# Altium integrated library Maxim Digital Potentiometers.IntLib: 1045 symbols (part 39 of 42)
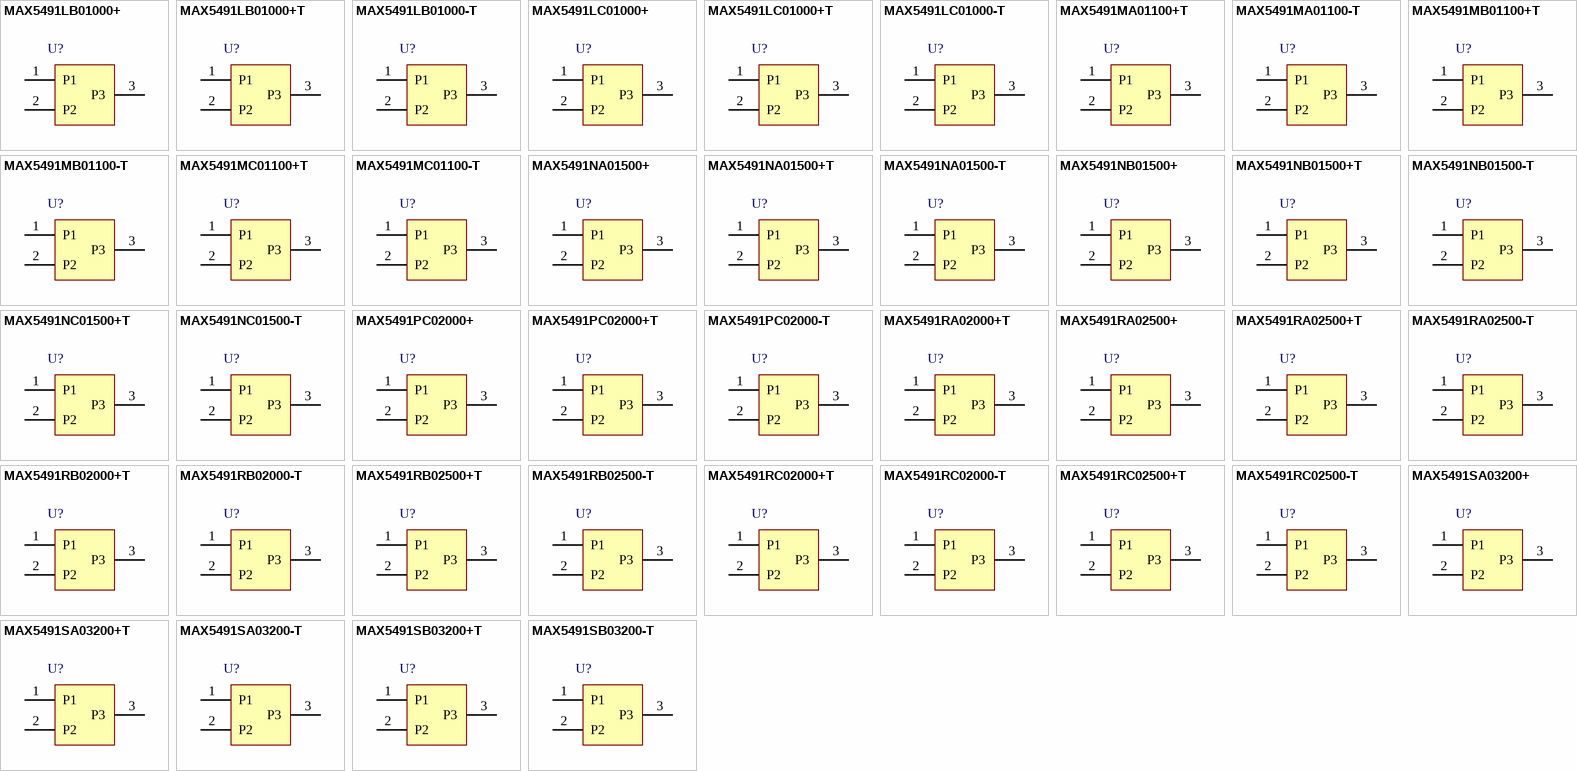
[diagram p67: symbols MAX5491LB01000+ to MAX5491SB03200-T]

## MAX5491RC02000-T
designator U?
30k 2 kV ESD Precision-Matched Resistor-Divider, -40 to 85 degC, 3-pin SOT (U3-2), Tape and Reel; PartNumber: MAX5491RC02000-T; DatasheetVersion: Rev. 3; PackageVersion: Rev. J, 06/2012; PackageReference: U3-2; PackageDescription: 3-Pin Small-Outline Transistor Package (U3-2), Body 2.92 x 1.3 mm, Pitch 0.95 mm; Supplier 1: Mouser; Supplier Part Number 1: N/A; Applications: Precision Voltage Divider; Mounting Technology: Surface Mount; Code_JEDEC: TO236; ComponentLink1Description: Manufacturer URL; ComponentLink1URL: http://www.maximintegrated.com/; ComponentLink2Description: Datasheet; ComponentLink2URL: http://datasheets.maximintegrated.com/en/ds/MAX5491.pdf; ComponentLink3Description: Package Specification; ComponentLink3URL: http://pdfserv.maximintegrated.com/package_dwgs/21-0051.PDF
footprint MAXM-U3-2_N (SOT23, 3-Leads, Body 2.92x1.3mm, Pitch 0.95mm, IPC Medium Density)
footprint MAXM-U3-2_L (SOT23, 3-Leads, Body 2.92x1.3mm, Pitch 0.95mm, IPC High Density)
footprint MAXM-U3-2_M (SOT23, 3-Leads, Body 2.92x1.3mm, Pitch 0.95mm, IPC Low Density)
pins: 1 P1 "R1 Connection Terminal", 2 P2 "R2 Connection Terminal", 3 P3 "Midpoint Between R1 and R2 Connection Terminals"

## MAX5491RC02500+T
designator U?
30k 2 kV ESD Precision-Matched Resistor-Divider, -40 to 85 degC, 3-pin SOT (U3+2), Pb-Free, Tape and Reel; PartNumber: MAX5491RC02500+T; DatasheetVersion: Rev. 3; PackageVersion: Rev. J, 06/2012; PackageReference: U3+2; PackageDescription: 3-Pin Small-Outline Transistor Package (U3+2), Body 2.92 x 1.3 mm, Pitch 0.95 mm; Supplier 1: Digi-Key; Supplier Part Number 1: MAX5491RC02500+T-ND; Supplier 2: Mouser; Supplier Part Number 2: 700-MAX5491RC02500T; Applications: Precision Voltage Divider; Mounting Technology: Surface Mount; Code_JEDEC: TO236; ComponentLink1Description: Manufacturer URL; ComponentLink1URL: http://www.maximintegrated.com/; ComponentLink2Description: Datasheet; ComponentLink2URL: http://datasheets.maximintegrated.com/en/ds/MAX5491.pdf; ComponentLink3Description: Package Specification; ComponentLink3URL: http://pdfserv.maximintegrated.com/package_dwgs/21-0051.PDF
footprint MAXM-U3+2_N (SOT23, 3-Leads, Body 2.92x1.3mm, Pitch 0.95mm, IPC Medium Density)
footprint MAXM-U3+2_L (SOT23, 3-Leads, Body 2.92x1.3mm, Pitch 0.95mm, IPC High Density)
footprint MAXM-U3+2_M (SOT23, 3-Leads, Body 2.92x1.3mm, Pitch 0.95mm, IPC Low Density)
pins: 1 P1 "R1 Connection Terminal", 2 P2 "R2 Connection Terminal", 3 P3 "Midpoint Between R1 and R2 Connection Terminals"

## MAX5491RC02500-T
designator U?
30k 2 kV ESD Precision-Matched Resistor-Divider, -40 to 85 degC, 3-pin SOT (U3-2), Tape and Reel; PartNumber: MAX5491RC02500-T; DatasheetVersion: Rev. 3; PackageVersion: Rev. J, 06/2012; PackageReference: U3-2; PackageDescription: 3-Pin Small-Outline Transistor Package (U3-2), Body 2.92 x 1.3 mm, Pitch 0.95 mm; Supplier 1: Mouser; Supplier Part Number 1: N/A; Applications: Precision Voltage Divider; Mounting Technology: Surface Mount; Code_JEDEC: TO236; ComponentLink1Description: Manufacturer URL; ComponentLink1URL: http://www.maximintegrated.com/; ComponentLink2Description: Datasheet; ComponentLink2URL: http://datasheets.maximintegrated.com/en/ds/MAX5491.pdf; ComponentLink3Description: Package Specification; ComponentLink3URL: http://pdfserv.maximintegrated.com/package_dwgs/21-0051.PDF
footprint MAXM-U3-2_N (SOT23, 3-Leads, Body 2.92x1.3mm, Pitch 0.95mm, IPC Medium Density)
footprint MAXM-U3-2_L (SOT23, 3-Leads, Body 2.92x1.3mm, Pitch 0.95mm, IPC High Density)
footprint MAXM-U3-2_M (SOT23, 3-Leads, Body 2.92x1.3mm, Pitch 0.95mm, IPC Low Density)
pins: 1 P1 "R1 Connection Terminal", 2 P2 "R2 Connection Terminal", 3 P3 "Midpoint Between R1 and R2 Connection Terminals"

## MAX5491SA03200+
designator U?
30k 2 kv ESD Precision-Matched Resistor-Divider, -40 to 85 degC, 3-pin SOT (U3+2), Pb-Free; PartNumber: MAX5491SA03200+; DatasheetVersion: Rev. 3; PackageVersion: Rev. J, 06/2012; PackageReference: U3+2; PackageDescription: 3-Pin Small-Outline Transistor Package (U3+2), Body 2.92 x 1.3 mm, Pitch 0.95 mm; Supplier 1: Mouser; Supplier Part Number 1: N/A; Applications: Precision Voltage Divider; Mounting Technology: Surface Mount; Code_JEDEC: TO236; ComponentLink1Description: Manufacturer URL; ComponentLink1URL: http://www.maximintegrated.com/; ComponentLink2Description: Datasheet; ComponentLink2URL: http://datasheets.maximintegrated.com/en/ds/MAX5491.pdf; ComponentLink3Description: Package Specification; ComponentLink3URL: http://pdfserv.maximintegrated.com/package_dwgs/21-0051.PDF
footprint MAXM-U3+2_N (SOT23, 3-Leads, Body 2.92x1.3mm, Pitch 0.95mm, IPC Medium Density)
footprint MAXM-U3+2_L (SOT23, 3-Leads, Body 2.92x1.3mm, Pitch 0.95mm, IPC High Density)
footprint MAXM-U3+2_M (SOT23, 3-Leads, Body 2.92x1.3mm, Pitch 0.95mm, IPC Low Density)
pins: 1 P1 "R1 Connection Terminal", 2 P2 "R2 Connection Terminal", 3 P3 "Midpoint Between R1 and R2 Connection Terminals"

## MAX5491SA03200+T
designator U?
30k 2 kV ESD Precision-Matched Resistor-Divider, -40 to 85 degC, 3-pin SOT (U3+2), Pb-Free, Tape and Reel; PartNumber: MAX5491SA03200+T; DatasheetVersion: Rev. 3; PackageVersion: Rev. J, 06/2012; PackageReference: U3+2; PackageDescription: 3-Pin Small-Outline Transistor Package (U3+2), Body 2.92 x 1.3 mm, Pitch 0.95 mm; Supplier 1: Digi-Key; Supplier Part Number 1: MAX5491SA03200+T-ND; Supplier 2: Mouser; Supplier Part Number 2: 700-MAX5491SA03200T; Applications: Precision Voltage Divider; Mounting Technology: Surface Mount; Code_JEDEC: TO236; ComponentLink1Description: Manufacturer URL; ComponentLink1URL: http://www.maximintegrated.com/; ComponentLink2Description: Datasheet; ComponentLink2URL: http://datasheets.maximintegrated.com/en/ds/MAX5491.pdf; ComponentLink3Description: Package Specification; ComponentLink3URL: http://pdfserv.maximintegrated.com/package_dwgs/21-0051.PDF
footprint MAXM-U3+2_N (SOT23, 3-Leads, Body 2.92x1.3mm, Pitch 0.95mm, IPC Medium Density)
footprint MAXM-U3+2_L (SOT23, 3-Leads, Body 2.92x1.3mm, Pitch 0.95mm, IPC High Density)
footprint MAXM-U3+2_M (SOT23, 3-Leads, Body 2.92x1.3mm, Pitch 0.95mm, IPC Low Density)
pins: 1 P1 "R1 Connection Terminal", 2 P2 "R2 Connection Terminal", 3 P3 "Midpoint Between R1 and R2 Connection Terminals"

## MAX5491SA03200-T
designator U?
30k 2 kV ESD Precision-Matched Resistor-Divider, -40 to 85 degC, 3-pin SOT (U3-2), Tape and Reel; PartNumber: MAX5491SA03200-T; DatasheetVersion: Rev. 3; PackageVersion: Rev. J, 06/2012; PackageReference: U3-2; PackageDescription: 3-Pin Small-Outline Transistor Package (U3-2), Body 2.92 x 1.3 mm, Pitch 0.95 mm; Supplier 1: Mouser; Supplier Part Number 1: N/A; Applications: Precision Voltage Divider; Mounting Technology: Surface Mount; Code_JEDEC: TO236; ComponentLink1Description: Manufacturer URL; ComponentLink1URL: http://www.maximintegrated.com/; ComponentLink2Description: Datasheet; ComponentLink2URL: http://datasheets.maximintegrated.com/en/ds/MAX5491.pdf; ComponentLink3Description: Package Specification; ComponentLink3URL: http://pdfserv.maximintegrated.com/package_dwgs/21-0051.PDF
footprint MAXM-U3-2_N (SOT23, 3-Leads, Body 2.92x1.3mm, Pitch 0.95mm, IPC Medium Density)
footprint MAXM-U3-2_L (SOT23, 3-Leads, Body 2.92x1.3mm, Pitch 0.95mm, IPC High Density)
footprint MAXM-U3-2_M (SOT23, 3-Leads, Body 2.92x1.3mm, Pitch 0.95mm, IPC Low Density)
pins: 1 P1 "R1 Connection Terminal", 2 P2 "R2 Connection Terminal", 3 P3 "Midpoint Between R1 and R2 Connection Terminals"

## MAX5491SB03200+T
designator U?
30k 2 kV ESD Precision-Matched Resistor-Divider, -40 to 85 degC, 3-pin SOT (U3+2), Pb-Free, Tape and Reel; PartNumber: MAX5491SB03200+T; DatasheetVersion: Rev. 3; PackageVersion: Rev. J, 06/2012; PackageReference: U3+2; PackageDescription: 3-Pin Small-Outline Transistor Package (U3+2), Body 2.92 x 1.3 mm, Pitch 0.95 mm; Supplier 1: Digi-Key; Supplier Part Number 1: MAX5491SB03200+T-ND; Supplier 2: Mouser; Supplier Part Number 2: 700-MAX5491SB03200T; Applications: Precision Voltage Divider; Mounting Technology: Surface Mount; Code_JEDEC: TO236; ComponentLink1Description: Manufacturer URL; ComponentLink1URL: http://www.maximintegrated.com/; ComponentLink2Description: Datasheet; ComponentLink2URL: http://datasheets.maximintegrated.com/en/ds/MAX5491.pdf; ComponentLink3Description: Package Specification; ComponentLink3URL: http://pdfserv.maximintegrated.com/package_dwgs/21-0051.PDF
footprint MAXM-U3+2_N (SOT23, 3-Leads, Body 2.92x1.3mm, Pitch 0.95mm, IPC Medium Density)
footprint MAXM-U3+2_L (SOT23, 3-Leads, Body 2.92x1.3mm, Pitch 0.95mm, IPC High Density)
footprint MAXM-U3+2_M (SOT23, 3-Leads, Body 2.92x1.3mm, Pitch 0.95mm, IPC Low Density)
pins: 1 P1 "R1 Connection Terminal", 2 P2 "R2 Connection Terminal", 3 P3 "Midpoint Between R1 and R2 Connection Terminals"

## MAX5491SB03200-T
designator U?
30k 2 kV ESD Precision-Matched Resistor-Divider, -40 to 85 degC, 3-pin SOT (U3-2), Tape and Reel; PartNumber: MAX5491SB03200-T; DatasheetVersion: Rev. 3; PackageVersion: Rev. J, 06/2012; PackageReference: U3-2; PackageDescription: 3-Pin Small-Outline Transistor Package (U3-2), Body 2.92 x 1.3 mm, Pitch 0.95 mm; Supplier 1: Mouser; Supplier Part Number 1: N/A; Applications: Precision Voltage Divider; Mounting Technology: Surface Mount; Code_JEDEC: TO236; ComponentLink1Description: Manufacturer URL; ComponentLink1URL: http://www.maximintegrated.com/; ComponentLink2Description: Datasheet; ComponentLink2URL: http://datasheets.maximintegrated.com/en/ds/MAX5491.pdf; ComponentLink3Description: Package Specification; ComponentLink3URL: http://pdfserv.maximintegrated.com/package_dwgs/21-0051.PDF
footprint MAXM-U3-2_N (SOT23, 3-Leads, Body 2.92x1.3mm, Pitch 0.95mm, IPC Medium Density)
footprint MAXM-U3-2_L (SOT23, 3-Leads, Body 2.92x1.3mm, Pitch 0.95mm, IPC High Density)
footprint MAXM-U3-2_M (SOT23, 3-Leads, Body 2.92x1.3mm, Pitch 0.95mm, IPC Low Density)
pins: 1 P1 "R1 Connection Terminal", 2 P2 "R2 Connection Terminal", 3 P3 "Midpoint Between R1 and R2 Connection Terminals"

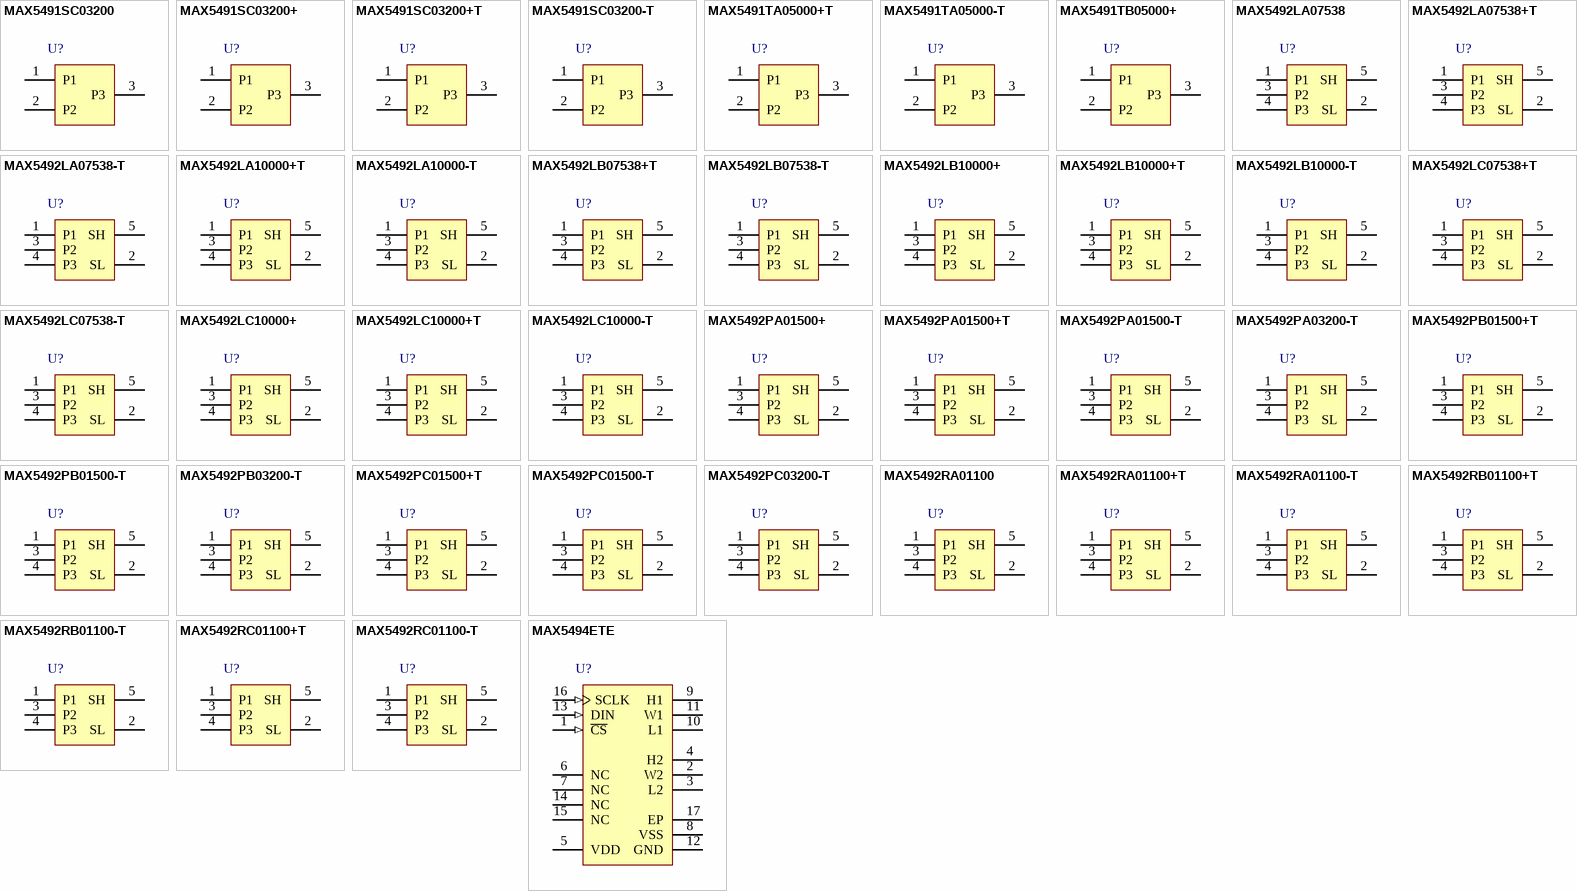
[diagram p27: symbols MAX5491SC03200 to MAX5494ETE]

## MAX5491SC03200
designator U?
30k 2 kV ESD Precision-Matched Resistor-Divider, -40 to 85 degC, 3-pin SOT (U3-2); PartNumber: MAX5491SC03200; DatasheetVersion: Rev. 3; PackageVersion: Rev. J, 06/2012; PackageReference: U3-2; PackageDescription: 3-Pin Small-Outline Transistor Package (U3-2), Body 2.92 x 1.3 mm, Pitch 0.95 mm; Supplier 1: Mouser; Supplier Part Number 1: N/A; Applications: Precision Voltage Divider; Mounting Technology: Surface Mount; Code_JEDEC: TO236; ComponentLink1Description: Manufacturer URL; ComponentLink1URL: http://www.maximintegrated.com/; ComponentLink2Description: Datasheet; ComponentLink2URL: http://datasheets.maximintegrated.com/en/ds/MAX5491.pdf; ComponentLink3Description: Package Specification; ComponentLink3URL: http://pdfserv.maximintegrated.com/package_dwgs/21-0051.PDF
footprint MAXM-U3-2_N (SOT23, 3-Leads, Body 2.92x1.3mm, Pitch 0.95mm, IPC Medium Density)
footprint MAXM-U3-2_L (SOT23, 3-Leads, Body 2.92x1.3mm, Pitch 0.95mm, IPC High Density)
footprint MAXM-U3-2_M (SOT23, 3-Leads, Body 2.92x1.3mm, Pitch 0.95mm, IPC Low Density)
pins: 1 P1 "R1 Connection Terminal", 2 P2 "R2 Connection Terminal", 3 P3 "Midpoint Between R1 and R2 Connection Terminals"

## MAX5491SC03200+
designator U?
30k 2 kV ESD Precision-Matched Resistor-Divider, -40 to 85 degC, 3-pin SOT (U3+2), Pb-Free; PartNumber: MAX5491SC03200+; DatasheetVersion: Rev. 3; PackageVersion: Rev. J, 06/2012; PackageReference: U3+2; PackageDescription: 3-Pin Small-Outline Transistor Package (U3+2), Body 2.92 x 1.3 mm, Pitch 0.95 mm; Supplier 1: Mouser; Supplier Part Number 1: N/A; Applications: Precision Voltage Divider; Mounting Technology: Surface Mount; Code_JEDEC: TO236; ComponentLink1Description: Manufacturer URL; ComponentLink1URL: http://www.maximintegrated.com/; ComponentLink2Description: Datasheet; ComponentLink2URL: http://datasheets.maximintegrated.com/en/ds/MAX5491.pdf; ComponentLink3Description: Package Specification; ComponentLink3URL: http://pdfserv.maximintegrated.com/package_dwgs/21-0051.PDF
footprint MAXM-U3+2_N (SOT23, 3-Leads, Body 2.92x1.3mm, Pitch 0.95mm, IPC Medium Density)
footprint MAXM-U3+2_L (SOT23, 3-Leads, Body 2.92x1.3mm, Pitch 0.95mm, IPC High Density)
footprint MAXM-U3+2_M (SOT23, 3-Leads, Body 2.92x1.3mm, Pitch 0.95mm, IPC Low Density)
pins: 1 P1 "R1 Connection Terminal", 2 P2 "R2 Connection Terminal", 3 P3 "Midpoint Between R1 and R2 Connection Terminals"

## MAX5491SC03200+T
designator U?
30k 2 kV ESD Precision-Matched Resistor-Divider, -40 to 85 degC, 3-pin SOT (U3+2), Pb-Free, Tape and Reel; PartNumber: MAX5491SC03200+T; DatasheetVersion: Rev. 3; PackageVersion: Rev. J, 06/2012; PackageReference: U3+2; PackageDescription: 3-Pin Small-Outline Transistor Package (U3+2), Body 2.92 x 1.3 mm, Pitch 0.95 mm; Supplier 1: Digi-Key; Supplier Part Number 1: MAX5491SC03200+T-ND; Supplier 2: Mouser; Supplier Part Number 2: 700-MAX5491SC03200T; Applications: Precision Voltage Divider; Mounting Technology: Surface Mount; Code_JEDEC: TO236; ComponentLink1Description: Manufacturer URL; ComponentLink1URL: http://www.maximintegrated.com/; ComponentLink2Description: Datasheet; ComponentLink2URL: http://datasheets.maximintegrated.com/en/ds/MAX5491.pdf; ComponentLink3Description: Package Specification; ComponentLink3URL: http://pdfserv.maximintegrated.com/package_dwgs/21-0051.PDF
footprint MAXM-U3+2_N (SOT23, 3-Leads, Body 2.92x1.3mm, Pitch 0.95mm, IPC Medium Density)
footprint MAXM-U3+2_L (SOT23, 3-Leads, Body 2.92x1.3mm, Pitch 0.95mm, IPC High Density)
footprint MAXM-U3+2_M (SOT23, 3-Leads, Body 2.92x1.3mm, Pitch 0.95mm, IPC Low Density)
pins: 1 P1 "R1 Connection Terminal", 2 P2 "R2 Connection Terminal", 3 P3 "Midpoint Between R1 and R2 Connection Terminals"

## MAX5491SC03200-T
designator U?
30k 2 kV ESD Precision-Matched Resistor-Divider, -40 to 85 degC, 3-pin SOT (U3-2), Tape and Reel; PartNumber: MAX5491SC03200-T; DatasheetVersion: Rev. 3; PackageVersion: Rev. J, 06/2012; PackageReference: U3-2; PackageDescription: 3-Pin Small-Outline Transistor Package (U3-2), Body 2.92 x 1.3 mm, Pitch 0.95 mm; Supplier 1: Mouser; Supplier Part Number 1: N/A; Applications: Precision Voltage Divider; Mounting Technology: Surface Mount; Code_JEDEC: TO236; ComponentLink1Description: Manufacturer URL; ComponentLink1URL: http://www.maximintegrated.com/; ComponentLink2Description: Datasheet; ComponentLink2URL: http://datasheets.maximintegrated.com/en/ds/MAX5491.pdf; ComponentLink3Description: Package Specification; ComponentLink3URL: http://pdfserv.maximintegrated.com/package_dwgs/21-0051.PDF
footprint MAXM-U3-2_N (SOT23, 3-Leads, Body 2.92x1.3mm, Pitch 0.95mm, IPC Medium Density)
footprint MAXM-U3-2_L (SOT23, 3-Leads, Body 2.92x1.3mm, Pitch 0.95mm, IPC High Density)
footprint MAXM-U3-2_M (SOT23, 3-Leads, Body 2.92x1.3mm, Pitch 0.95mm, IPC Low Density)
pins: 1 P1 "R1 Connection Terminal", 2 P2 "R2 Connection Terminal", 3 P3 "Midpoint Between R1 and R2 Connection Terminals"

## MAX5491TA05000+T
designator U?
30k 2 kV ESD Precision-Matched Resistor-Divider, -40 to 85 degC, 3-pin SOT (U3+2), Pb-Free, Tape and Reel; PartNumber: MAX5491TA05000+T; DatasheetVersion: Rev. 3; PackageVersion: Rev. J, 06/2012; PackageReference: U3+2; PackageDescription: 3-Pin Small-Outline Transistor Package (U3+2), Body 2.92 x 1.3 mm, Pitch 0.95 mm; Supplier 1: Digi-Key; Supplier Part Number 1: MAX5491TA05000+T-ND; Supplier 2: Mouser; Supplier Part Number 2: 700-MAX5491TA05000T; Applications: Precision Voltage Divider; Mounting Technology: Surface Mount; Code_JEDEC: TO236; ComponentLink1Description: Manufacturer URL; ComponentLink1URL: http://www.maximintegrated.com/; ComponentLink2Description: Datasheet; ComponentLink2URL: http://datasheets.maximintegrated.com/en/ds/MAX5491.pdf; ComponentLink3Description: Package Specification; ComponentLink3URL: http://pdfserv.maximintegrated.com/package_dwgs/21-0051.PDF
footprint MAXM-U3+2_N (SOT23, 3-Leads, Body 2.92x1.3mm, Pitch 0.95mm, IPC Medium Density)
footprint MAXM-U3+2_L (SOT23, 3-Leads, Body 2.92x1.3mm, Pitch 0.95mm, IPC High Density)
footprint MAXM-U3+2_M (SOT23, 3-Leads, Body 2.92x1.3mm, Pitch 0.95mm, IPC Low Density)
pins: 1 P1 "R1 Connection Terminal", 2 P2 "R2 Connection Terminal", 3 P3 "Midpoint Between R1 and R2 Connection Terminals"

## MAX5491TA05000-T
designator U?
30k 2 kV ESD Precision-Matched Resistor-Divider, -40 to 85 degC, 3-pin SOT (U3-2), Tape and Reel; PartNumber: MAX5491TA05000-T; DatasheetVersion: Rev. 3; PackageVersion: Rev. J, 06/2012; PackageReference: U3-2; PackageDescription: 3-Pin Small-Outline Transistor Package (U3-2), Body 2.92 x 1.3 mm, Pitch 0.95 mm; Supplier 1: Mouser; Supplier Part Number 1: N/A; Applications: Precision Voltage Divider; Mounting Technology: Surface Mount; Code_JEDEC: TO236; ComponentLink1Description: Manufacturer URL; ComponentLink1URL: http://www.maximintegrated.com/; ComponentLink2Description: Datasheet; ComponentLink2URL: http://datasheets.maximintegrated.com/en/ds/MAX5491.pdf; ComponentLink3Description: Package Specification; ComponentLink3URL: http://pdfserv.maximintegrated.com/package_dwgs/21-0051.PDF
footprint MAXM-U3-2_N (SOT23, 3-Leads, Body 2.92x1.3mm, Pitch 0.95mm, IPC Medium Density)
footprint MAXM-U3-2_L (SOT23, 3-Leads, Body 2.92x1.3mm, Pitch 0.95mm, IPC High Density)
footprint MAXM-U3-2_M (SOT23, 3-Leads, Body 2.92x1.3mm, Pitch 0.95mm, IPC Low Density)
pins: 1 P1 "R1 Connection Terminal", 2 P2 "R2 Connection Terminal", 3 P3 "Midpoint Between R1 and R2 Connection Terminals"

## MAX5491TB05000+
designator U?
30k 2 kV ESD Precision-Matched Resistor-Divider, -40 to 85 degC, 3-pin SOT (U3+2), Pb-Free; PartNumber: MAX5491TB05000+; DatasheetVersion: Rev. 3; PackageVersion: Rev. J, 06/2012; PackageReference: U3+2; PackageDescription: 3-Pin Small-Outline Transistor Package (U3+2), Body 2.92 x 1.3 mm, Pitch 0.95 mm; Supplier 1: Mouser; Supplier Part Number 1: N/A; Applications: Precision Voltage Divider; Mounting Technology: Surface Mount; Code_JEDEC: TO236; ComponentLink1Description: Manufacturer URL; ComponentLink1URL: http://www.maximintegrated.com/; ComponentLink2Description: Datasheet; ComponentLink2URL: http://datasheets.maximintegrated.com/en/ds/MAX5491.pdf; ComponentLink3Description: Package Specification; ComponentLink3URL: http://pdfserv.maximintegrated.com/package_dwgs/21-0051.PDF
footprint MAXM-U3+2_N (SOT23, 3-Leads, Body 2.92x1.3mm, Pitch 0.95mm, IPC Medium Density)
footprint MAXM-U3+2_L (SOT23, 3-Leads, Body 2.92x1.3mm, Pitch 0.95mm, IPC High Density)
footprint MAXM-U3+2_M (SOT23, 3-Leads, Body 2.92x1.3mm, Pitch 0.95mm, IPC Low Density)
pins: 1 P1 "R1 Connection Terminal", 2 P2 "R2 Connection Terminal", 3 P3 "Midpoint Between R1 and R2 Connection Terminals"

## MAX5492LA07538
designator U?
10k 2 KV ESD Precision-Matched Resistor-Divider, -55 to 125 degC, 5-pin SOT (U5-1); PartNumber: MAX5492LA07538; DatasheetVersion: Rev. 0; PackageVersion: Rev. G, 04/2011; PackageReference: U5-1; PackageDescription: 5-Pin Small-Outline Transistor Package (U5-1), Body 2.9 x 1.625 mm, Pitch 0.95 mm; Supplier 1: Mouser; Supplier Part Number 1: N/A; Applications: Precision Voltage Divider; Mounting Technology: Surface Mount; Code_JEDEC: MO178; ComponentLink1Description: Manufacturer URL; ComponentLink1URL: http://www.maximintegrated.com/; ComponentLink2Description: Datasheet; ComponentLink2URL: http://datasheets.maximintegrated.com/en/ds/MAX5492.pdf; ComponentLink3Description: Package Specification; ComponentLink3URL: http://pdfserv.maximintegrated.com/package_dwgs/21-0057.PDF
footprint MAXM-U5-1_N (SOT23, 5-Leads, Body 2.9x1.625mm, Pitch 0.95mm, IPC Medium Density)
footprint MAXM-U5-1_L (SOT23, 5-Leads, Body 2.9x1.625mm, Pitch 0.95mm, IPC High Density)
footprint MAXM-U5-1_M (SOT23, 5-Leads, Body 2.9x1.625mm, Pitch 0.95mm, IPC Low Density)
pins: 1 P1 "R1 Connection Terminal", 2 SL "Sense Connection for Low Side of Resistor String. Leave floating or connect in a Kelvin connection configuration.", 3 P2 "R2 Connection Terminal", 4 P3 "Set-Point Connection Terminal", 5 SH "Sense Connection for High Side of Resistor String. Leave floating or connect in a Kelvin connection configuration."

## MAX5492LA07538+T
designator U?
10k 2 KV ESD Precision-Matched Resistor-Divider, -55 to 125 degC, 5-pin SOT (U5+1), Pb-Free, Tape and Reel; PartNumber: MAX5492LA07538+T; DatasheetVersion: Rev. 0; PackageVersion: Rev. G, 04/2011; PackageReference: U5+1; PackageDescription: 5-Pin Small-Outline Transistor Package (U5+1), Body 2.90 x 1.625 mm, Pitch 0.95 mm; Supplier 1: Digi-Key; Supplier Part Number 1: MAX5492LA07538+T-ND; Supplier 2: Mouser; Supplier Part Number 2: 700-MAX5492LA07538T; Applications: Precision Voltage Divider; Mounting Technology: Surface Mount; Code_JEDEC: MO178; ComponentLink1Description: Manufacturer URL; ComponentLink1URL: http://www.maximintegrated.com/; ComponentLink2Description: Datasheet; ComponentLink2URL: http://datasheets.maximintegrated.com/en/ds/MAX5492.pdf; ComponentLink3Description: Package Specification; ComponentLink3URL: http://pdfserv.maximintegrated.com/package_dwgs/21-0057.PDF
footprint MAXM-U5+1_N (SOT23, 5-Leads, Body 2.9x1.625mm, Pitch 0.95mm, IPC Medium Density)
footprint MAXM-U5+1_L (SOT23, 5-Leads, Body 2.9x1.625mm, Pitch 0.95mm, IPC High Density)
footprint MAXM-U5+1_M (SOT23, 5-Leads, Body 2.9x1.625mm, Pitch 0.95mm, IPC Low Density)
pins: 1 P1 "R1 Connection Terminal", 2 SL "Sense Connection for Low Side of Resistor String. Leave floating or connect in a Kelvin connection configuration.", 3 P2 "R2 Connection Terminal", 4 P3 "Set-Point Connection Terminal", 5 SH "Sense Connection for High Side of Resistor String. Leave floating or connect in a Kelvin connection configuration."

## MAX5492LA07538-T
designator U?
10k 2 KV ESD Precision-Matched Resistor-Divider, -55 to 125 degC, 5-pin SOT (U5-1), Tape and Reel; PartNumber: MAX5492LA07538-T; DatasheetVersion: Rev. 0; PackageVersion: Rev. G, 04/2011; PackageReference: U5-1; PackageDescription: 5-Pin Small-Outline Transistor Package (U5-1), Body 2.9 x 1.625 mm, Pitch 0.95 mm; Supplier 1: Mouser; Supplier Part Number 1: N/A; Applications: Precision Voltage Divider; Mounting Technology: Surface Mount; Code_JEDEC: MO178; ComponentLink1Description: Manufacturer URL; ComponentLink1URL: http://www.maximintegrated.com/; ComponentLink2Description: Datasheet; ComponentLink2URL: http://datasheets.maximintegrated.com/en/ds/MAX5492.pdf; ComponentLink3Description: Package Specification; ComponentLink3URL: http://pdfserv.maximintegrated.com/package_dwgs/21-0057.PDF
footprint MAXM-U5-1_N (SOT23, 5-Leads, Body 2.9x1.625mm, Pitch 0.95mm, IPC Medium Density)
footprint MAXM-U5-1_L (SOT23, 5-Leads, Body 2.9x1.625mm, Pitch 0.95mm, IPC High Density)
footprint MAXM-U5-1_M (SOT23, 5-Leads, Body 2.9x1.625mm, Pitch 0.95mm, IPC Low Density)
pins: 1 P1 "R1 Connection Terminal", 2 SL "Sense Connection for Low Side of Resistor String. Leave floating or connect in a Kelvin connection configuration.", 3 P2 "R2 Connection Terminal", 4 P3 "Set-Point Connection Terminal", 5 SH "Sense Connection for High Side of Resistor String. Leave floating or connect in a Kelvin connection configuration."

## MAX5492LA10000+T
designator U?
10k 2 KV ESD Precision-Matched Resistor-Divider, -55 to 125 degC, 5-pin SOT (U5+1), Pb-Free, Tape and Reel; PartNumber: MAX5492LA10000+T; DatasheetVersion: Rev. 0; PackageVersion: Rev. G, 04/2011; PackageReference: U5+1; PackageDescription: 5-Pin Small-Outline Transistor Package (U5+1), Body 2.90 x 1.625 mm, Pitch 0.95 mm; Supplier 1: Digi-Key; Supplier Part Number 1: MAX5492LA10000+T-ND; Supplier 2: Mouser; Supplier Part Number 2: 700-MAX5492LA10000T; Applications: Precision Voltage Divider; Mounting Technology: Surface Mount; Code_JEDEC: MO178; ComponentLink1Description: Manufacturer URL; ComponentLink1URL: http://www.maximintegrated.com/; ComponentLink2Description: Datasheet; ComponentLink2URL: http://datasheets.maximintegrated.com/en/ds/MAX5492.pdf; ComponentLink3Description: Package Specification; ComponentLink3URL: http://pdfserv.maximintegrated.com/package_dwgs/21-0057.PDF
footprint MAXM-U5+1_N (SOT23, 5-Leads, Body 2.9x1.625mm, Pitch 0.95mm, IPC Medium Density)
footprint MAXM-U5+1_L (SOT23, 5-Leads, Body 2.9x1.625mm, Pitch 0.95mm, IPC High Density)
footprint MAXM-U5+1_M (SOT23, 5-Leads, Body 2.9x1.625mm, Pitch 0.95mm, IPC Low Density)
pins: 1 P1 "R1 Connection Terminal", 2 SL "Sense Connection for Low Side of Resistor String. Leave floating or connect in a Kelvin connection configuration.", 3 P2 "R2 Connection Terminal", 4 P3 "Set-Point Connection Terminal", 5 SH "Sense Connection for High Side of Resistor String. Leave floating or connect in a Kelvin connection configuration."

## MAX5492LA10000-T
designator U?
10k 2 KV ESD Precision-Matched Resistor-Divider, -55 to 125 degC, 5-pin SOT (U5-1), Tape and Reel; PartNumber: MAX5492LA10000-T; DatasheetVersion: Rev. 0; PackageVersion: Rev. G, 04/2011; PackageReference: U5-1; PackageDescription: 5-Pin Small-Outline Transistor Package (U5-1), Body 2.9 x 1.625 mm, Pitch 0.95 mm; Supplier 1: Mouser; Supplier Part Number 1: N/A; Applications: Precision Voltage Divider; Mounting Technology: Surface Mount; Code_JEDEC: MO178; ComponentLink1Description: Manufacturer URL; ComponentLink1URL: http://www.maximintegrated.com/; ComponentLink2Description: Datasheet; ComponentLink2URL: http://datasheets.maximintegrated.com/en/ds/MAX5492.pdf; ComponentLink3Description: Package Specification; ComponentLink3URL: http://pdfserv.maximintegrated.com/package_dwgs/21-0057.PDF
footprint MAXM-U5-1_N (SOT23, 5-Leads, Body 2.9x1.625mm, Pitch 0.95mm, IPC Medium Density)
footprint MAXM-U5-1_L (SOT23, 5-Leads, Body 2.9x1.625mm, Pitch 0.95mm, IPC High Density)
footprint MAXM-U5-1_M (SOT23, 5-Leads, Body 2.9x1.625mm, Pitch 0.95mm, IPC Low Density)
pins: 1 P1 "R1 Connection Terminal", 2 SL "Sense Connection for Low Side of Resistor String. Leave floating or connect in a Kelvin connection configuration.", 3 P2 "R2 Connection Terminal", 4 P3 "Set-Point Connection Terminal", 5 SH "Sense Connection for High Side of Resistor String. Leave floating or connect in a Kelvin connection configuration."

## MAX5492LB07538+T
designator U?
10k 2 kV ESD Precision-Matched Resistor-Divider, -55 to 125 degC, 5-pin SOT (U5+1), Pb-Free, Tape and Reel; PartNumber: MAX5492LB07538+T; DatasheetVersion: Rev. 0; PackageVersion: Rev. G, 04/2011; PackageReference: U5+1; PackageDescription: 5-Pin Small-Outline Transistor Package (U5+1), Body 2.90 x 1.625 mm, Pitch 0.95 mm; Supplier 1: Digi-Key; Supplier Part Number 1: MAX5492LB07538+T-ND; Supplier 2: Mouser; Supplier Part Number 2: 700-MAX5492LB07538T; Applications: Precision Voltage Divider; Mounting Technology: Surface Mount; Code_JEDEC: MO178; ComponentLink1Description: Manufacturer URL; ComponentLink1URL: http://www.maximintegrated.com/; ComponentLink2Description: Datasheet; ComponentLink2URL: http://datasheets.maximintegrated.com/en/ds/MAX5492.pdf; ComponentLink3Description: Package Specification; ComponentLink3URL: http://pdfserv.maximintegrated.com/package_dwgs/21-0057.PDF
footprint MAXM-U5+1_N (SOT23, 5-Leads, Body 2.9x1.625mm, Pitch 0.95mm, IPC Medium Density)
footprint MAXM-U5+1_L (SOT23, 5-Leads, Body 2.9x1.625mm, Pitch 0.95mm, IPC High Density)
footprint MAXM-U5+1_M (SOT23, 5-Leads, Body 2.9x1.625mm, Pitch 0.95mm, IPC Low Density)
pins: 1 P1 "R1 Connection Terminal", 2 SL "Sense Connection for Low Side of Resistor String. Leave floating or connect in a Kelvin connection configuration.", 3 P2 "R2 Connection Terminal", 4 P3 "Set-Point Connection Terminal", 5 SH "Sense Connection for High Side of Resistor String. Leave floating or connect in a Kelvin connection configuration."

## MAX5492LB07538-T
designator U?
10k 2 kV ESD Precision-Matched Resistor-Divider, -55 to 125 degC, 5-pin SOT (U5-1), Tape and Reel; PartNumber: MAX5492LB07538-T; DatasheetVersion: Rev. 0; PackageVersion: Rev. G, 04/2011; PackageReference: U5-1; PackageDescription: 5-Pin Small-Outline Transistor Package (U5-1), Body 2.9 x 1.625 mm, Pitch 0.95 mm; Supplier 1: Mouser; Supplier Part Number 1: N/A; Applications: Precision Voltage Divider; Mounting Technology: Surface Mount; Code_JEDEC: MO178; ComponentLink1Description: Manufacturer URL; ComponentLink1URL: http://www.maximintegrated.com/; ComponentLink2Description: Datasheet; ComponentLink2URL: http://datasheets.maximintegrated.com/en/ds/MAX5492.pdf; ComponentLink3Description: Package Specification; ComponentLink3URL: http://pdfserv.maximintegrated.com/package_dwgs/21-0057.PDF
footprint MAXM-U5-1_N (SOT23, 5-Leads, Body 2.9x1.625mm, Pitch 0.95mm, IPC Medium Density)
footprint MAXM-U5-1_L (SOT23, 5-Leads, Body 2.9x1.625mm, Pitch 0.95mm, IPC High Density)
footprint MAXM-U5-1_M (SOT23, 5-Leads, Body 2.9x1.625mm, Pitch 0.95mm, IPC Low Density)
pins: 1 P1 "R1 Connection Terminal", 2 SL "Sense Connection for Low Side of Resistor String. Leave floating or connect in a Kelvin connection configuration.", 3 P2 "R2 Connection Terminal", 4 P3 "Set-Point Connection Terminal", 5 SH "Sense Connection for High Side of Resistor String. Leave floating or connect in a Kelvin connection configuration."

## MAX5492LB10000+
designator U?
10k 2 kV ESD Precision-Matched Resistor-Divider, -55 to 125 degC, 5-pin SOT (U5+1), Pb-Free; PartNumber: MAX5492LB10000+; DatasheetVersion: Rev. 0; PackageVersion: Rev. G, 04/2011; PackageReference: U5+1; PackageDescription: 5-Pin Small-Outline Transistor Package (U5+1), Body 2.90 x 1.625 mm, Pitch 0.95 mm; Supplier 1: Mouser; Supplier Part Number 1: N/A; Applications: Precision Voltage Divider; Mounting Technology: Surface Mount; Code_JEDEC: MO178; ComponentLink1Description: Manufacturer URL; ComponentLink1URL: http://www.maximintegrated.com/; ComponentLink2Description: Datasheet; ComponentLink2URL: http://datasheets.maximintegrated.com/en/ds/MAX5492.pdf; ComponentLink3Description: Package Specification; ComponentLink3URL: http://pdfserv.maximintegrated.com/package_dwgs/21-0057.PDF
footprint MAXM-U5+1_N (SOT23, 5-Leads, Body 2.9x1.625mm, Pitch 0.95mm, IPC Medium Density)
footprint MAXM-U5+1_L (SOT23, 5-Leads, Body 2.9x1.625mm, Pitch 0.95mm, IPC High Density)
footprint MAXM-U5+1_M (SOT23, 5-Leads, Body 2.9x1.625mm, Pitch 0.95mm, IPC Low Density)
pins: 1 P1 "R1 Connection Terminal", 2 SL "Sense Connection for Low Side of Resistor String. Leave floating or connect in a Kelvin connection configuration.", 3 P2 "R2 Connection Terminal", 4 P3 "Set-Point Connection Terminal", 5 SH "Sense Connection for High Side of Resistor String. Leave floating or connect in a Kelvin connection configuration."

## MAX5492LB10000+T
designator U?
10k 2 kV ESD Precision-Matched Resistor-Divider, -55 to 125 degC, 5-pin SOT (U5+1), Pb-Free, Tape and Reel; PartNumber: MAX5492LB10000+T; DatasheetVersion: Rev. 0; PackageVersion: Rev. G, 04/2011; PackageReference: U5+1; PackageDescription: 5-Pin Small-Outline Transistor Package (U5+1), Body 2.90 x 1.625 mm, Pitch 0.95 mm; Supplier 1: Digi-Key; Supplier Part Number 1: MAX5492LB10000+TTR-ND; Supplier 2: Digi-Key; Supplier Part Number 2: MAX5492LB10000+TCT-ND; Supplier 3: Digi-Key; Supplier Part Number 3: MAX5492LB10000+TDKR-ND; Supplier 4: Farnell; Supplier Part Number 4: 1845902; Supplier 5: Mouser; Supplier Part Number 5: 700-MAX5492LB10000T; Applications: Precision Voltage Divider; Mounting Technology: Surface Mount; Code_JEDEC: MO178; ComponentLink1Description: Manufacturer URL; ComponentLink1URL: http://www.maximintegrated.com/; ComponentLink2Description: Datasheet; ComponentLink2URL: http://datasheets.maximintegrated.com/en/ds/MAX5492.pdf; ComponentLink3Description: Package Specification; ComponentLink3URL: http://pdfserv.maximintegrated.com/package_dwgs/21-0057.PDF
footprint MAXM-U5+1_N (SOT23, 5-Leads, Body 2.9x1.625mm, Pitch 0.95mm, IPC Medium Density)
footprint MAXM-U5+1_L (SOT23, 5-Leads, Body 2.9x1.625mm, Pitch 0.95mm, IPC High Density)
footprint MAXM-U5+1_M (SOT23, 5-Leads, Body 2.9x1.625mm, Pitch 0.95mm, IPC Low Density)
pins: 1 P1 "R1 Connection Terminal", 2 SL "Sense Connection for Low Side of Resistor String. Leave floating or connect in a Kelvin connection configuration.", 3 P2 "R2 Connection Terminal", 4 P3 "Set-Point Connection Terminal", 5 SH "Sense Connection for High Side of Resistor String. Leave floating or connect in a Kelvin connection configuration."

## MAX5492LB10000-T
designator U?
10k 2 kV ESD Precision-Matched Resistor-Divider, -55 to 125 degC, 5-pin SOT (U5-1), Tape and Reel; PartNumber: MAX5492LB10000-T; DatasheetVersion: Rev. 0; PackageVersion: Rev. G, 04/2011; PackageReference: U5-1; PackageDescription: 5-Pin Small-Outline Transistor Package (U5-1), Body 2.9 x 1.625 mm, Pitch 0.95 mm; Supplier 1: Mouser; Supplier Part Number 1: N/A; Applications: Precision Voltage Divider; Mounting Technology: Surface Mount; Code_JEDEC: MO178; ComponentLink1Description: Manufacturer URL; ComponentLink1URL: http://www.maximintegrated.com/; ComponentLink2Description: Datasheet; ComponentLink2URL: http://datasheets.maximintegrated.com/en/ds/MAX5492.pdf; ComponentLink3Description: Package Specification; ComponentLink3URL: http://pdfserv.maximintegrated.com/package_dwgs/21-0057.PDF
footprint MAXM-U5-1_N (SOT23, 5-Leads, Body 2.9x1.625mm, Pitch 0.95mm, IPC Medium Density)
footprint MAXM-U5-1_L (SOT23, 5-Leads, Body 2.9x1.625mm, Pitch 0.95mm, IPC High Density)
footprint MAXM-U5-1_M (SOT23, 5-Leads, Body 2.9x1.625mm, Pitch 0.95mm, IPC Low Density)
pins: 1 P1 "R1 Connection Terminal", 2 SL "Sense Connection for Low Side of Resistor String. Leave floating or connect in a Kelvin connection configuration.", 3 P2 "R2 Connection Terminal", 4 P3 "Set-Point Connection Terminal", 5 SH "Sense Connection for High Side of Resistor String. Leave floating or connect in a Kelvin connection configuration."

## MAX5492LC07538+T
designator U?
10k 2 kV ESD Precision-Matched Resistor-Divider, -55 to 125 degC, 5-pin SOT (U5+1), Pb-Free, Tape and Reel; PartNumber: MAX5492LC07538+T; DatasheetVersion: Rev. 0; PackageVersion: Rev. G, 04/2011; PackageReference: U5+1; PackageDescription: 5-Pin Small-Outline Transistor Package (U5+1), Body 2.90 x 1.625 mm, Pitch 0.95 mm; Supplier 1: Digi-Key; Supplier Part Number 1: MAX5492LC07538+T-ND; Supplier 2: Mouser; Supplier Part Number 2: 700-MAX5492LC07538T; Applications: Precision Voltage Divider; Mounting Technology: Surface Mount; Code_JEDEC: MO178; ComponentLink1Description: Manufacturer URL; ComponentLink1URL: http://www.maximintegrated.com/; ComponentLink2Description: Datasheet; ComponentLink2URL: http://datasheets.maximintegrated.com/en/ds/MAX5492.pdf; ComponentLink3Description: Package Specification; ComponentLink3URL: http://pdfserv.maximintegrated.com/package_dwgs/21-0057.PDF
footprint MAXM-U5+1_N (SOT23, 5-Leads, Body 2.9x1.625mm, Pitch 0.95mm, IPC Medium Density)
footprint MAXM-U5+1_L (SOT23, 5-Leads, Body 2.9x1.625mm, Pitch 0.95mm, IPC High Density)
footprint MAXM-U5+1_M (SOT23, 5-Leads, Body 2.9x1.625mm, Pitch 0.95mm, IPC Low Density)
pins: 1 P1 "R1 Connection Terminal", 2 SL "Sense Connection for Low Side of Resistor String. Leave floating or connect in a Kelvin connection configuration.", 3 P2 "R2 Connection Terminal", 4 P3 "Set-Point Connection Terminal", 5 SH "Sense Connection for High Side of Resistor String. Leave floating or connect in a Kelvin connection configuration."

## MAX5492LC07538-T
designator U?
10k 2 kV ESD Precision-Matched Resistor-Divider, -55 to 125 degC, 5-pin SOT (U5-1), Tape and Reel; PartNumber: MAX5492LC07538-T; DatasheetVersion: Rev. 0; PackageVersion: Rev. G, 04/2011; PackageReference: U5-1; PackageDescription: 5-Pin Small-Outline Transistor Package (U5-1), Body 2.9 x 1.625 mm, Pitch 0.95 mm; Supplier 1: Mouser; Supplier Part Number 1: N/A; Applications: Precision Voltage Divider; Mounting Technology: Surface Mount; Code_JEDEC: MO178; ComponentLink1Description: Manufacturer URL; ComponentLink1URL: http://www.maximintegrated.com/; ComponentLink2Description: Datasheet; ComponentLink2URL: http://datasheets.maximintegrated.com/en/ds/MAX5492.pdf; ComponentLink3Description: Package Specification; ComponentLink3URL: http://pdfserv.maximintegrated.com/package_dwgs/21-0057.PDF
footprint MAXM-U5-1_N (SOT23, 5-Leads, Body 2.9x1.625mm, Pitch 0.95mm, IPC Medium Density)
footprint MAXM-U5-1_L (SOT23, 5-Leads, Body 2.9x1.625mm, Pitch 0.95mm, IPC High Density)
footprint MAXM-U5-1_M (SOT23, 5-Leads, Body 2.9x1.625mm, Pitch 0.95mm, IPC Low Density)
pins: 1 P1 "R1 Connection Terminal", 2 SL "Sense Connection for Low Side of Resistor String. Leave floating or connect in a Kelvin connection configuration.", 3 P2 "R2 Connection Terminal", 4 P3 "Set-Point Connection Terminal", 5 SH "Sense Connection for High Side of Resistor String. Leave floating or connect in a Kelvin connection configuration."

## MAX5492LC10000+
designator U?
10k 2 kV ESD Precision-Matched Resistor-Divider, -55 to 125 degC, 5-pin SOT (U5+1), Pb-Free; PartNumber: MAX5492LC10000+; DatasheetVersion: Rev. 0; PackageVersion: Rev. G, 04/2011; PackageReference: U5+1; PackageDescription: 5-Pin Small-Outline Transistor Package (U5+1), Body 2.90 x 1.625 mm, Pitch 0.95 mm; Supplier 1: Mouser; Supplier Part Number 1: N/A; Applications: Precision Voltage Divider; Mounting Technology: Surface Mount; Code_JEDEC: MO178; ComponentLink1Description: Manufacturer URL; ComponentLink1URL: http://www.maximintegrated.com/; ComponentLink2Description: Datasheet; ComponentLink2URL: http://datasheets.maximintegrated.com/en/ds/MAX5492.pdf; ComponentLink3Description: Package Specification; ComponentLink3URL: http://pdfserv.maximintegrated.com/package_dwgs/21-0057.PDF
footprint MAXM-U5+1_N (SOT23, 5-Leads, Body 2.9x1.625mm, Pitch 0.95mm, IPC Medium Density)
footprint MAXM-U5+1_L (SOT23, 5-Leads, Body 2.9x1.625mm, Pitch 0.95mm, IPC High Density)
footprint MAXM-U5+1_M (SOT23, 5-Leads, Body 2.9x1.625mm, Pitch 0.95mm, IPC Low Density)
pins: 1 P1 "R1 Connection Terminal", 2 SL "Sense Connection for Low Side of Resistor String. Leave floating or connect in a Kelvin connection configuration.", 3 P2 "R2 Connection Terminal", 4 P3 "Set-Point Connection Terminal", 5 SH "Sense Connection for High Side of Resistor String. Leave floating or connect in a Kelvin connection configuration."

## MAX5492LC10000+T
designator U?
10k 2 kV ESD Precision-Matched Resistor-Divider, -55 to 125 degC, 5-pin SOT (U5+1), Pb-Free, Tape and Reel; PartNumber: MAX5492LC10000+T; DatasheetVersion: Rev. 0; PackageVersion: Rev. G, 04/2011; PackageReference: U5+1; PackageDescription: 5-Pin Small-Outline Transistor Package (U5+1), Body 2.90 x 1.625 mm, Pitch 0.95 mm; Supplier 1: Digi-Key; Supplier Part Number 1: MAX5492LC10000+TTR-ND; Supplier 2: Digi-Key; Supplier Part Number 2: MAX5492LC10000+TCT-ND; Supplier 3: Digi-Key; Supplier Part Number 3: MAX5492LC10000+TDKR-ND; Supplier 4: Farnell; Supplier Part Number 4: 1845903; Supplier 5: Mouser; Supplier Part Number 5: 700-MAX5492LC10000T; Applications: Precision Voltage Divider; Mounting Technology: Surface Mount; Code_JEDEC: MO178; ComponentLink1Description: Manufacturer URL; ComponentLink1URL: http://www.maximintegrated.com/; ComponentLink2Description: Datasheet; ComponentLink2URL: http://datasheets.maximintegrated.com/en/ds/MAX5492.pdf; ComponentLink3Description: Package Specification; ComponentLink3URL: http://pdfserv.maximintegrated.com/package_dwgs/21-0057.PDF
footprint MAXM-U5+1_N (SOT23, 5-Leads, Body 2.9x1.625mm, Pitch 0.95mm, IPC Medium Density)
footprint MAXM-U5+1_L (SOT23, 5-Leads, Body 2.9x1.625mm, Pitch 0.95mm, IPC High Density)
footprint MAXM-U5+1_M (SOT23, 5-Leads, Body 2.9x1.625mm, Pitch 0.95mm, IPC Low Density)
pins: 1 P1 "R1 Connection Terminal", 2 SL "Sense Connection for Low Side of Resistor String. Leave floating or connect in a Kelvin connection configuration.", 3 P2 "R2 Connection Terminal", 4 P3 "Set-Point Connection Terminal", 5 SH "Sense Connection for High Side of Resistor String. Leave floating or connect in a Kelvin connection configuration."

## MAX5492LC10000-T
designator U?
10k 2 kV ESD Precision-Matched Resistor-Divider, -55 to 125 degC, 5-pin SOT (U5-1), Tape and Reel; PartNumber: MAX5492LC10000-T; DatasheetVersion: Rev. 0; PackageVersion: Rev. G, 04/2011; PackageReference: U5-1; PackageDescription: 5-Pin Small-Outline Transistor Package (U5-1), Body 2.9 x 1.625 mm, Pitch 0.95 mm; Supplier 1: Mouser; Supplier Part Number 1: N/A; Applications: Precision Voltage Divider; Mounting Technology: Surface Mount; Code_JEDEC: MO178; ComponentLink1Description: Manufacturer URL; ComponentLink1URL: http://www.maximintegrated.com/; ComponentLink2Description: Datasheet; ComponentLink2URL: http://datasheets.maximintegrated.com/en/ds/MAX5492.pdf; ComponentLink3Description: Package Specification; ComponentLink3URL: http://pdfserv.maximintegrated.com/package_dwgs/21-0057.PDF
footprint MAXM-U5-1_N (SOT23, 5-Leads, Body 2.9x1.625mm, Pitch 0.95mm, IPC Medium Density)
footprint MAXM-U5-1_L (SOT23, 5-Leads, Body 2.9x1.625mm, Pitch 0.95mm, IPC High Density)
footprint MAXM-U5-1_M (SOT23, 5-Leads, Body 2.9x1.625mm, Pitch 0.95mm, IPC Low Density)
pins: 1 P1 "R1 Connection Terminal", 2 SL "Sense Connection for Low Side of Resistor String. Leave floating or connect in a Kelvin connection configuration.", 3 P2 "R2 Connection Terminal", 4 P3 "Set-Point Connection Terminal", 5 SH "Sense Connection for High Side of Resistor String. Leave floating or connect in a Kelvin connection configuration."

## MAX5492PA01500+
designator U?
10k 2 kV ESD Precision-Matched Resistor-Divider, -55 to 125 degC, 5-pin SOT (U5+1), Pb-Free; PartNumber: MAX5492PA01500+; DatasheetVersion: Rev. 0; PackageVersion: Rev. G, 04/2011; PackageReference: U5+1; PackageDescription: 5-Pin Small-Outline Transistor Package (U5+1), Body 2.90 x 1.625 mm, Pitch 0.95 mm; Supplier 1: Mouser; Supplier Part Number 1: N/A; Applications: Precision Voltage Divider; Mounting Technology: Surface Mount; Code_JEDEC: MO178; ComponentLink1Description: Manufacturer URL; ComponentLink1URL: http://www.maximintegrated.com/; ComponentLink2Description: Datasheet; ComponentLink2URL: http://datasheets.maximintegrated.com/en/ds/MAX5492.pdf; ComponentLink3Description: Package Specification; ComponentLink3URL: http://pdfserv.maximintegrated.com/package_dwgs/21-0057.PDF
footprint MAXM-U5+1_N (SOT23, 5-Leads, Body 2.9x1.625mm, Pitch 0.95mm, IPC Medium Density)
footprint MAXM-U5+1_L (SOT23, 5-Leads, Body 2.9x1.625mm, Pitch 0.95mm, IPC High Density)
footprint MAXM-U5+1_M (SOT23, 5-Leads, Body 2.9x1.625mm, Pitch 0.95mm, IPC Low Density)
pins: 1 P1 "R1 Connection Terminal", 2 SL "Sense Connection for Low Side of Resistor String. Leave floating or connect in a Kelvin connection configuration.", 3 P2 "R2 Connection Terminal", 4 P3 "Set-Point Connection Terminal", 5 SH "Sense Connection for High Side of Resistor String. Leave floating or connect in a Kelvin connection configuration."

## MAX5492PA01500+T
designator U?
10k 2 kV ESD Precision-Matched Resistor-Divider, -55 to 125 degC, 5-pin SOT (U5+1), Pb-Free, Tape and Reel; PartNumber: MAX5492PA01500+T; DatasheetVersion: Rev. 0; PackageVersion: Rev. G, 04/2011; PackageReference: U5+1; PackageDescription: 5-Pin Small-Outline Transistor Package (U5+1), Body 2.90 x 1.625 mm, Pitch 0.95 mm; Supplier 1: Digi-Key; Supplier Part Number 1: MAX5492PA01500+T-ND; Supplier 2: Mouser; Supplier Part Number 2: 700-MAX5492PA01500T; Applications: Precision Voltage Divider; Mounting Technology: Surface Mount; Code_JEDEC: MO178; ComponentLink1Description: Manufacturer URL; ComponentLink1URL: http://www.maximintegrated.com/; ComponentLink2Description: Datasheet; ComponentLink2URL: http://datasheets.maximintegrated.com/en/ds/MAX5492.pdf; ComponentLink3Description: Package Specification; ComponentLink3URL: http://pdfserv.maximintegrated.com/package_dwgs/21-0057.PDF
footprint MAXM-U5+1_N (SOT23, 5-Leads, Body 2.9x1.625mm, Pitch 0.95mm, IPC Medium Density)
footprint MAXM-U5+1_L (SOT23, 5-Leads, Body 2.9x1.625mm, Pitch 0.95mm, IPC High Density)
footprint MAXM-U5+1_M (SOT23, 5-Leads, Body 2.9x1.625mm, Pitch 0.95mm, IPC Low Density)
pins: 1 P1 "R1 Connection Terminal", 2 SL "Sense Connection for Low Side of Resistor String. Leave floating or connect in a Kelvin connection configuration.", 3 P2 "R2 Connection Terminal", 4 P3 "Set-Point Connection Terminal", 5 SH "Sense Connection for High Side of Resistor String. Leave floating or connect in a Kelvin connection configuration."

## MAX5492PA01500-T
designator U?
10k 2 kV ESD Precision-Matched Resistor-Divider, -55 to 125 degC, 5-pin SOT (U5-1), Tape and Reel; PartNumber: MAX5492PA01500-T; DatasheetVersion: Rev. 0; PackageVersion: Rev. G, 04/2011; PackageReference: U5-1; PackageDescription: 5-Pin Small-Outline Transistor Package (U5-1), Body 2.9 x 1.625 mm, Pitch 0.95 mm; Supplier 1: Mouser; Supplier Part Number 1: N/A; Applications: Precision Voltage Divider; Mounting Technology: Surface Mount; Code_JEDEC: MO178; ComponentLink1Description: Manufacturer URL; ComponentLink1URL: http://www.maximintegrated.com/; ComponentLink2Description: Datasheet; ComponentLink2URL: http://datasheets.maximintegrated.com/en/ds/MAX5492.pdf; ComponentLink3Description: Package Specification; ComponentLink3URL: http://pdfserv.maximintegrated.com/package_dwgs/21-0057.PDF
footprint MAXM-U5-1_N (SOT23, 5-Leads, Body 2.9x1.625mm, Pitch 0.95mm, IPC Medium Density)
footprint MAXM-U5-1_L (SOT23, 5-Leads, Body 2.9x1.625mm, Pitch 0.95mm, IPC High Density)
footprint MAXM-U5-1_M (SOT23, 5-Leads, Body 2.9x1.625mm, Pitch 0.95mm, IPC Low Density)
pins: 1 P1 "R1 Connection Terminal", 2 SL "Sense Connection for Low Side of Resistor String. Leave floating or connect in a Kelvin connection configuration.", 3 P2 "R2 Connection Terminal", 4 P3 "Set-Point Connection Terminal", 5 SH "Sense Connection for High Side of Resistor String. Leave floating or connect in a Kelvin connection configuration."

## MAX5492PA03200-T
designator U?
10k 2 kV ESD Precision-Matched Resistor-Divider, -55 to 125 degC, 5-pin SOT (U5-1), Tape and Reel; PartNumber: MAX5492PA03200-T; DatasheetVersion: Rev. 0; PackageVersion: Rev. G, 04/2011; PackageReference: U5-1; PackageDescription: 5-Pin Small-Outline Transistor Package (U5-1), Body 2.9 x 1.625 mm, Pitch 0.95 mm; Supplier 1: Mouser; Supplier Part Number 1: N/A; Applications: Precision Voltage Divider; Mounting Technology: Surface Mount; Code_JEDEC: MO178; ComponentLink1Description: Manufacturer URL; ComponentLink1URL: http://www.maximintegrated.com/; ComponentLink2Description: Datasheet; ComponentLink2URL: http://datasheets.maximintegrated.com/en/ds/MAX5492.pdf; ComponentLink3Description: Package Specification; ComponentLink3URL: http://pdfserv.maximintegrated.com/package_dwgs/21-0057.PDF
footprint MAXM-U5-1_N (SOT23, 5-Leads, Body 2.9x1.625mm, Pitch 0.95mm, IPC Medium Density)
footprint MAXM-U5-1_L (SOT23, 5-Leads, Body 2.9x1.625mm, Pitch 0.95mm, IPC High Density)
footprint MAXM-U5-1_M (SOT23, 5-Leads, Body 2.9x1.625mm, Pitch 0.95mm, IPC Low Density)
pins: 1 P1 "R1 Connection Terminal", 2 SL "Sense Connection for Low Side of Resistor String. Leave floating or connect in a Kelvin connection configuration.", 3 P2 "R2 Connection Terminal", 4 P3 "Set-Point Connection Terminal", 5 SH "Sense Connection for High Side of Resistor String. Leave floating or connect in a Kelvin connection configuration."

## MAX5492PB01500+T
designator U?
10k 2 kV ESD Precision-Matched Resistor-Divider, -55 to 125 degC, 5-pin SOT (U5+1), Pb-Free, Tape and Reel; PartNumber: MAX5492PB01500+T; DatasheetVersion: Rev. 0; PackageVersion: Rev. G, 04/2011; PackageReference: U5+1; PackageDescription: 5-Pin Small-Outline Transistor Package (U5+1), Body 2.90 x 1.625 mm, Pitch 0.95 mm; Supplier 1: Digi-Key; Supplier Part Number 1: MAX5492PB01500+T-ND; Supplier 2: Mouser; Supplier Part Number 2: 700-MAX5492PB01500T; Applications: Precision Voltage Divider; Mounting Technology: Surface Mount; Code_JEDEC: MO178; ComponentLink1Description: Manufacturer URL; ComponentLink1URL: http://www.maximintegrated.com/; ComponentLink2Description: Datasheet; ComponentLink2URL: http://datasheets.maximintegrated.com/en/ds/MAX5492.pdf; ComponentLink3Description: Package Specification; ComponentLink3URL: http://pdfserv.maximintegrated.com/package_dwgs/21-0057.PDF
footprint MAXM-U5+1_N (SOT23, 5-Leads, Body 2.9x1.625mm, Pitch 0.95mm, IPC Medium Density)
footprint MAXM-U5+1_L (SOT23, 5-Leads, Body 2.9x1.625mm, Pitch 0.95mm, IPC High Density)
footprint MAXM-U5+1_M (SOT23, 5-Leads, Body 2.9x1.625mm, Pitch 0.95mm, IPC Low Density)
pins: 1 P1 "R1 Connection Terminal", 2 SL "Sense Connection for Low Side of Resistor String. Leave floating or connect in a Kelvin connection configuration.", 3 P2 "R2 Connection Terminal", 4 P3 "Set-Point Connection Terminal", 5 SH "Sense Connection for High Side of Resistor String. Leave floating or connect in a Kelvin connection configuration."